# EAGLE library part LTC3060_LT3060 (library toyotune)
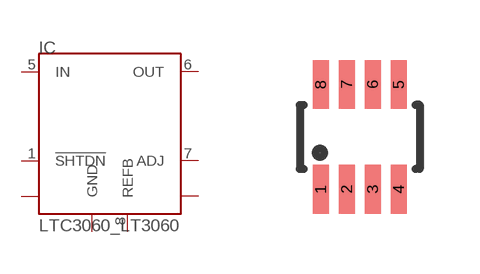
[diagram p41: symbol with the pads of LTC3060_TSOT-23-8; footprint LTC3060_TSOT-23-8]

Designator prefix IC

## LTC3060_LT3060  [LTC3060_TSOT-23-8]
1  !SHTDN  in
2  GND  pwr
3  GND  pwr
4  GND  pwr
5  IN  pwr
6  OUT  pwr
7  ADJ
8  REFB

## Footprint LTC3060_TSOT-23-8 (pad centres in mm)
smd 0.4 x 1.22: 1 -0.975,-1.31; 2 -0.325,-1.31; 3 0.325,-1.31; 4 0.975,-1.31; 5 0.975,1.31; 6 0.325,1.31; 7 -0.325,1.31; 8 -0.975,1.31